# EAGLE library part 70553-10 (library con-molex-c-grid)
C-Grid SL
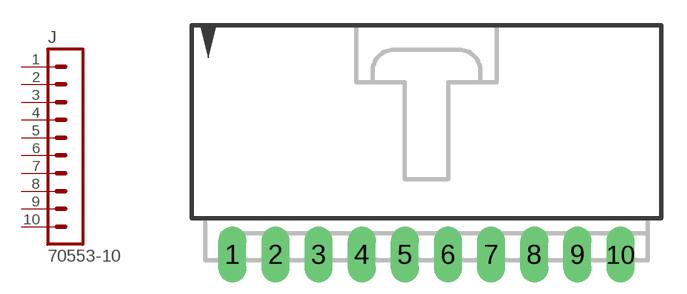
[diagram p24: symbol with the pads of 70553-10; footprint 70553-10]

Designator prefix J

## 70553-10  [70553-10]
1  1  pas
2  2  pas
3  3  pas
4  4  pas
5  5  pas
6  6  pas
7  7  pas
8  8  pas
9  9  pas
10  10  pas

## Footprint 70553-10 (pad centres in mm)
C-Grid SL right angle
drill 1.092 long: 1 -11.43,-7.62; 2 -8.89,-7.62; 3 -6.35,-7.62; 4 -3.81,-7.62; 5 -1.27,-7.62; 6 1.27,-7.62; 7 3.81,-7.62; 8 6.35,-7.62; 9 8.89,-7.62; 10 11.43,-7.62